# Altium footprint library VGA breakout.PcbLib: 4 footprints
Each footprint in its own frame and in the unit in brackets; x right, y up, seen from the top. Pads: shape width x height; smd on the part's side, far side on the other; paste and mask are expansions set on the pad; w line width, h text height; cw(c..) or ccw(c..) is an arc to the next point about the centre after c.
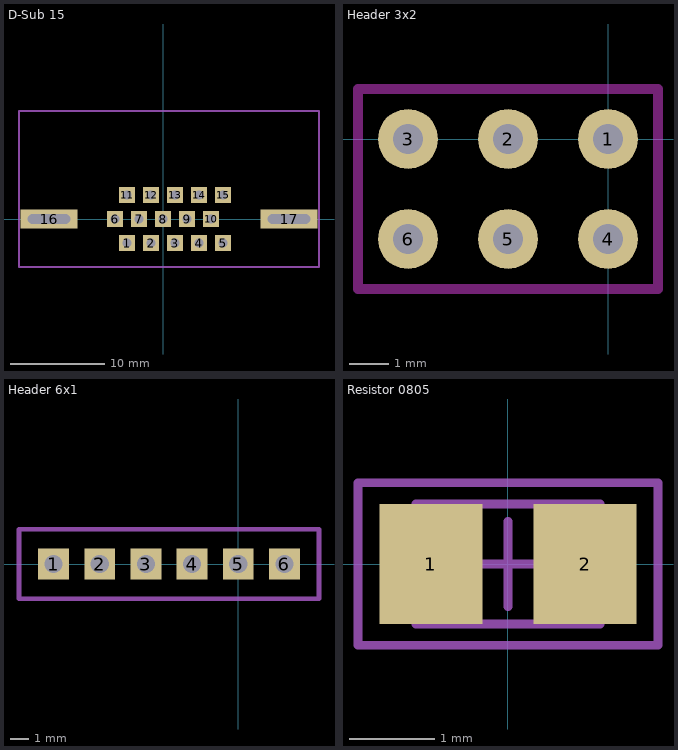
[diagram p0: the footprints below, top view; thin cyan lines are the x and y axes]

## D-Sub 15 [mm] "VGA connector"
pads (17):
  rect 1.7x1.7 hole 1: 1(-3.81,-2.54) 2(-1.27,-2.54) 3(1.27,-2.54) 4(3.81,-2.54) 5(6.35,-2.54) 6(-5.08,0) 7(-2.54,0) 8(0,0) 9(2.54,0) 10(5.08,0) 11(-3.81,2.54) 12(-1.27,2.54) 13(1.27,2.54) 14(3.81,2.54) 15(6.35,2.54)
  rect 6x2 hole 1 slot 4.5 at 0 deg: 16(-12.065,0) 17(13.335,0)
Mechanical 1:
  lines w0.254: -15.24,-5.08 -15.24,11.43 16.51,11.43 16.51,-5.08 -15.24,-5.08

## Header 3x2 [mil]
height 51.18
pads (6):
  round 60 hole 30: 1(0,0) 2(-100,0) 3(-200,0) 4(0,-100) 5(-100,-100) 6(-200,-100)
Keep-Out Layer:
  lines w10: -250,-150 -250,50 50,50 50,-150 -250,-150

## Header 6x1 [mm]
height 1.3
pads (6):
  rect 1.7x1.7 hole 1: 1(-10.16,0) 2(-7.62,0) 3(-5.08,0) 4(-2.54,0) 5(0,0) 6(2.54,0)
Mechanical 1:
  lines w0.254: -12.065,-1.905 -12.065,1.905 4.445,1.905 4.445,-1.905 -12.065,-1.905

## Resistor 0805 [mm] "Resistor 0805 / 2012 (2.0 x 1.2 mm)"
height 1.3
pads (2):
  rect 1.2x1.4 smd: 1(-0.9,0) 2(0.9,0)
Mechanical 13:
  lines w0.1: -1.075,-0.7 -1.075,0.7 1.075,0.7 1.075,-0.7 -1.075,-0.7
Mechanical 15:
  lines w0.1: -0.5,0 0.5,0 ; 0,-0.5 0,0.5 ; -1.75,-0.95 -1.75,0.95 1.75,0.95 1.75,-0.95 -1.75,-0.95
3D body: height 0.45, standoff 0, extent -1,-0.625 1,0.625